# Altium footprint library YGT01.PcbLib: 8 footprints
Each footprint in its own frame and in the unit in brackets; x right, y up, seen from the top. Pads: shape width x height; smd on the part's side, far side on the other; paste and mask are expansions set on the pad; w line width, h text height; cw(c..) or ccw(c..) is an arc to the next point about the centre after c.
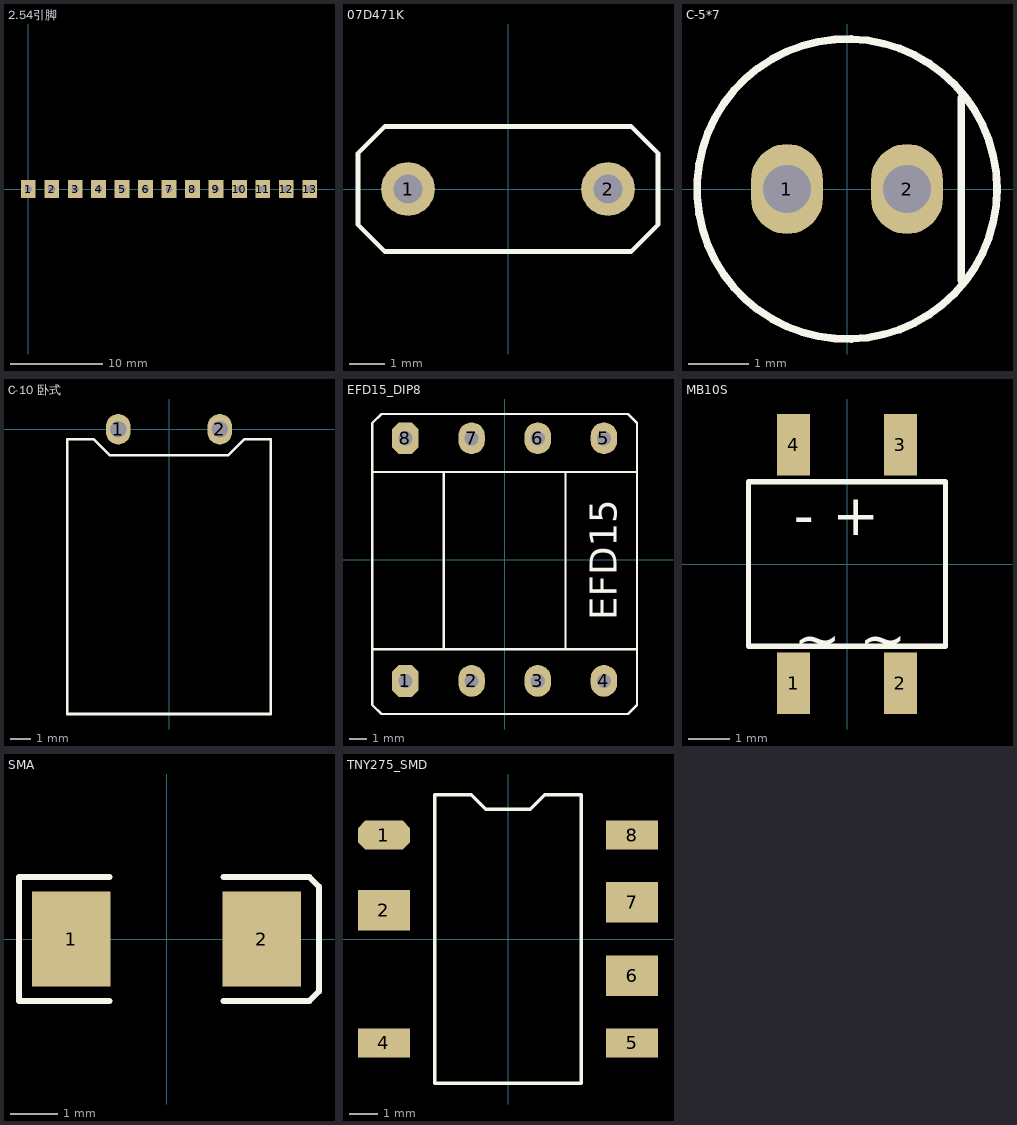
[diagram p0: the footprints below, top view; thin cyan lines are the x and y axes]

## 2.54引脚 [mm]
pads (13):
  rect 1.6x2 hole 0.8: 1(0,0) 2(2.54,0) 3(5.08,0) 4(7.62,0) 5(10.16,0) 6(12.7,0) 7(15.24,0) 8(17.78,0) 9(20.32,0) 10(22.86,0) 11(25.4,0) 12(27.94,0) 13(30.48,0)

## 07D471K [mm]
pads (2):
  round 1.5 hole 0.8: 1(-2.8,0) 2(2.8,0)
Top Overlay:
  lines w0.127: -4.2,-1 -4.2,1 -3.45,1.75 3.45,1.75 4.2,1 4.2,-1 3.45,-1.75 -3.45,-1.75 -4.2,-1

## C-5*7 [mm]
pads (2):
  oval 1.2x1.5 hole 0.8: 1(-1,0) 2(1,0)
Top Overlay:
  circle w0.127: c0,0 r2.5
  lines w0.127: 1.905,-1.524 1.905,1.524

## C-10 卧式 [mm]
pads (2):
  oval 1.2x1.5 hole 0.8: 1(-2.5,0) 2(2.5,0)
Top Overlay:
  lines w0.127: -5,-14 5,-14 5,-0.5 3.691,-0.5 2.921,-1.27 -2.921,-1.27 -3.691,-0.5 -5,-0.5 -5,-14

## EFD15_DIP8 [mm]
height 8.3
pads (8):
  oct 1.5x1.8 hole 0.8: 1(-5.625,-6.875) 8(-5.625,6.875)
  oval 1.5x1.8 hole 0.8: 2(-1.875,-6.875) 3(1.875,-6.875) 4(5.625,-6.875) 5(5.625,6.875) 6(1.875,6.875) 7(-1.875,6.875)
Top Overlay:
  lines w0.127: -3.45,-5.08 -3.45,4.96 ; 3.45,-5.08 3.45,4.96 ; 7.486,4.96 -7.5,4.96 ; 7.5,4.946 7.5,-5.08 ; 7.5,4.96 7.5,7.735 6.985,8.25 -6.985,8.25 -7.5,7.735 -7.5,4.96 ; -7.5,-5.087 -7.5,4.96 ; -7.5,-5.087 -7.5,-8.235 -6.985,-8.75 6.985,-8.75 7.5,-8.235 7.5,-5.08 ; -7.5,-5.087 -7.493,-5.08 7.5,-5.08
  text "." at -6.731,-8.255 h1.52
  text "EFD15" at 6.35,-3.429 h1.52

## MB10S [mm]
pads (4):
  rect 0.8x1.5 smd: 1(-1.3,-2.9) 2(1.3,-2.9) 3(1.3,2.9) 4(-1.3,2.9)
Top Overlay:
  lines w0.127: -2.4,-2 2.4,-2 2.4,2 -2.4,2 -2.4,-2
  text "~ ~" at -1.3,-2.3 h1
  text "- +" at -1.3,0.7 h1

## SMA [mm]
pads (2):
  rect 1.65x2 smd: 1(-2,0) 2(2,0)
Top Overlay:
  lines w0.127: -1.2,-1.3 -3.1,-1.3 -3.1,1.3 -1.2,1.3 ; 1.2,-1.3 3,-1.3 3.2,-1.1 3.2,1.1 3,1.3 1.2,1.3

## TNY275_SMD [mm]
pads (7):
  oct 1.8x1 smd: 1(-4.3,3.6)
  rect 1.8x1.4 smd: 2(-4.3,1) 6(4.3,-1.27) 7(4.3,1.27)
  rect 1.8x1 smd: 4(-4.3,-3.6) 5(4.3,-3.6) 8(4.3,3.6)
Top Overlay:
  lines w0.127: -2.54,-5 -2.54,5 -1.27,5 -0.77,4.5 0.77,4.5 1.27,5 2.54,5 2.54,-5 -2.54,-5